# Altium schematic symbol library CAN.SchLib: 9 symbols
Pins are listed as number, name and electrical type; pins without a type are passive.

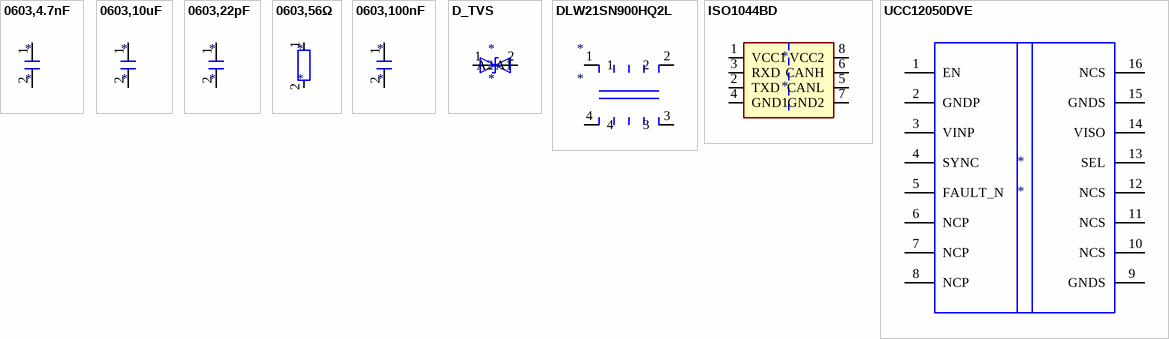
[diagram p0: symbols 0603,4.7nF to UCC12050DVE]

## 0603,4.7nF
designator *
pins: 1, 2

## 0603,10uF
designator *
pins: 1, 2

## 0603,22pF
designator *
pins: 1, 2

## 0603,56Ω
designator *
pins: 1, 2

## 0603,100nF
designator *
pins: 1, 2

## D_TVS
designator *
pins: 1 A1, 2 A2

## DLW21SN900HQ2L
designator *
pins: 1, 2, 3, 4

## ISO1044BD
designator *
pins: 1 VCC1, 2 TXD, 3 RXD, 4 GND1, 5 CANL, 6 CANH, 7 GND2, 8 VCC2

## UCC12050DVE
designator *
pins: 1 EN, 2 GNDP, 3 VINP, 4 SYNC, 5 FAULT_N, 6 NCP, 7 NCP, 8 NCP, 9 GNDS, 10 NCS, 11 NCS, 12 NCS, 13 SEL, 14 VISO, 15 GNDS, 16 NCS